# Altium footprint library Inverter_LCEE.PcbLib: 1 footprints
Each footprint in its own frame and in the unit in brackets; x right, y up, seen from the top. Pads: shape width x height; smd on the part's side, far side on the other; paste and mask are expansions set on the pad; w line width, h text height; cw(c..) or ccw(c..) is an arc to the next point about the centre after c.
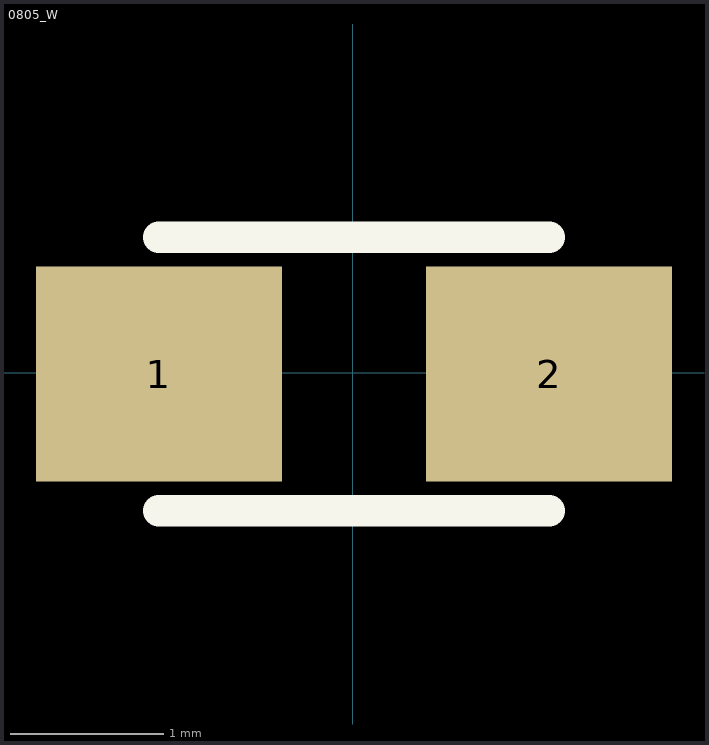
[diagram p0: the footprint, top view; thin cyan lines are the x and y axes]

## 0805_W [mm]
pads (2):
  rect 1.6x1.397 smd: 1(-1.263,-0.009) 2(1.277,-0.009)
Top Overlay:
  lines w0.203: -1.263,-0.898 1.277,-0.898 ; -1.263,0.88 1.277,0.88